# Altium footprint library Tranzistor.PcbLib: 240 footprints (part 2 of 15)
Each footprint in its own frame and in the unit in brackets; x right, y up, seen from the top. Pads: shape width x height; smd on the part's side, far side on the other; paste and mask are expansions set on the pad; w line width, h text height; cw(c..) or ccw(c..) is an arc to the next point about the centre after c.
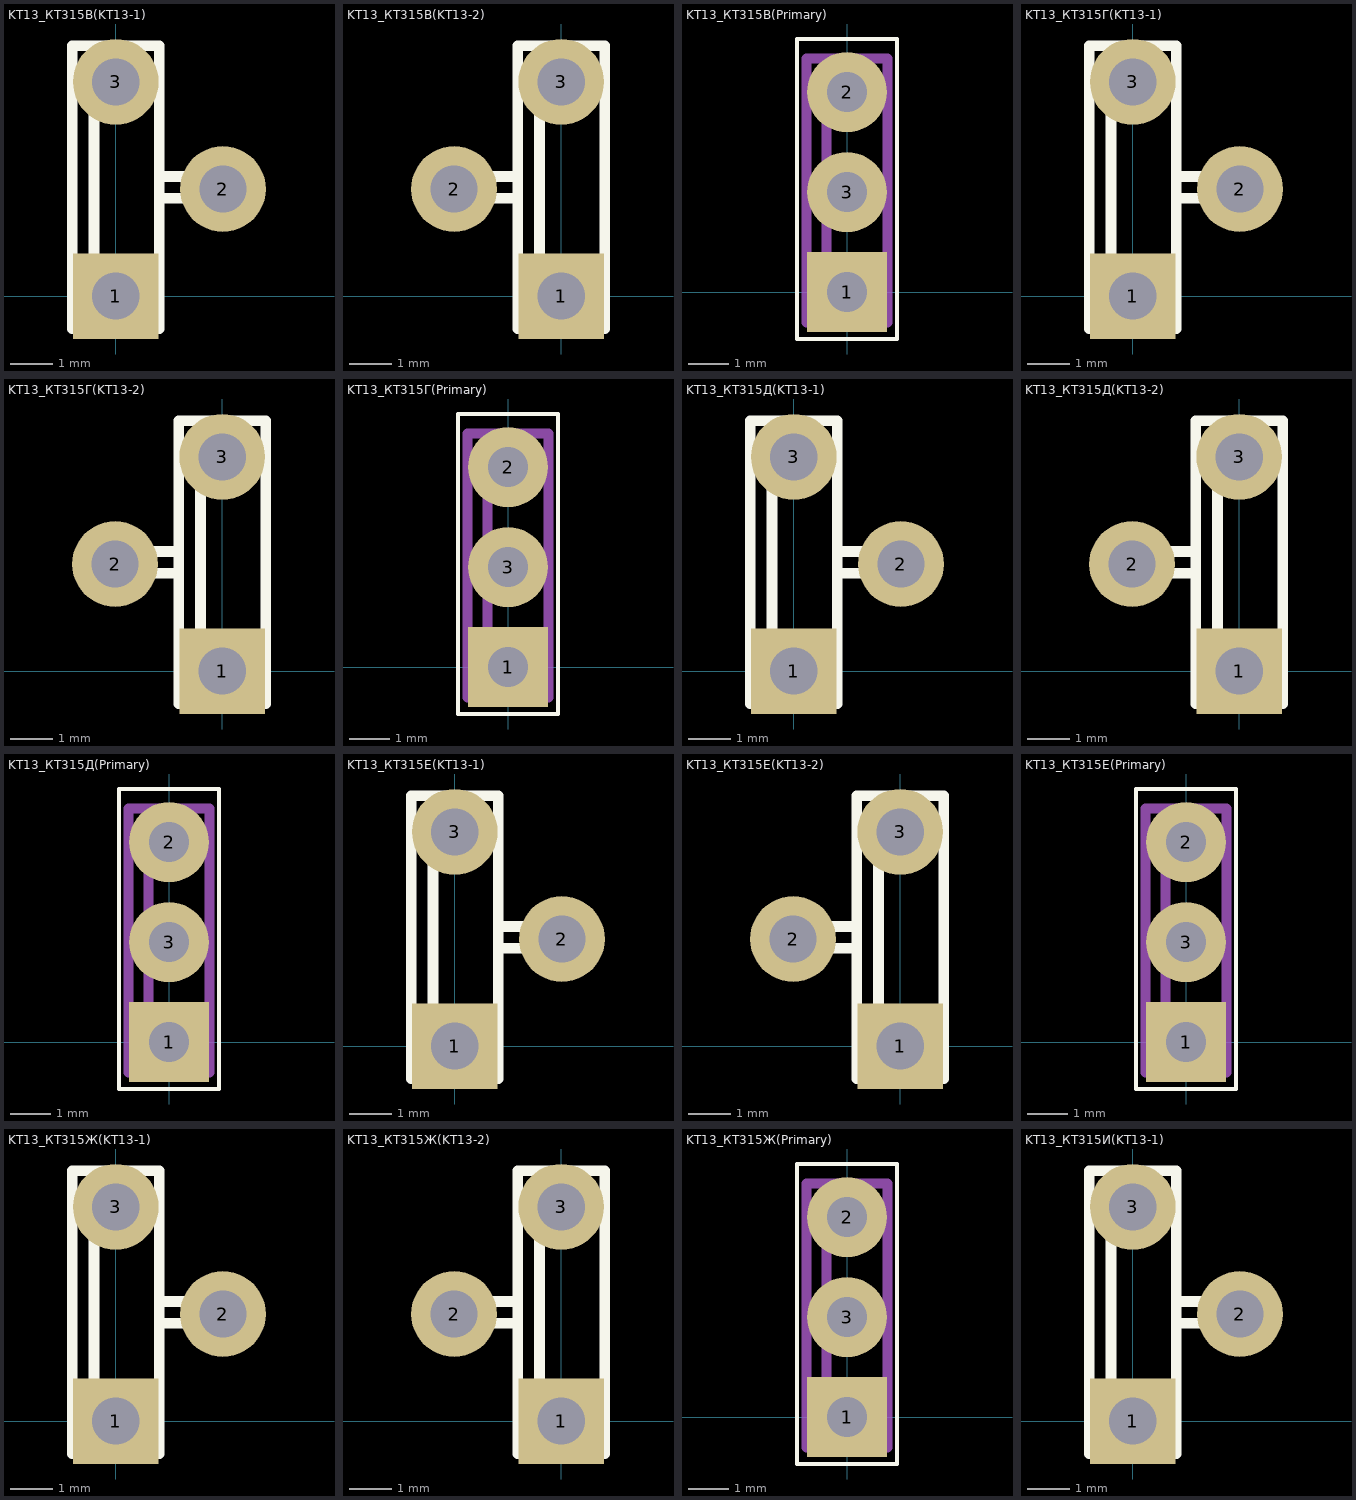
[diagram p1: the footprints below, top view; thin cyan lines are the x and y axes]

## KT13_КТ315В(KT13-1) [mm]
pads (3):
  rect 2x2 hole 1.1: 1(0,0)
  round 2 hole 1.1: 2(2.5,2.5) 3(0,5)
Top Overlay:
  lines w0.25: -0.508,-0.762 -0.508,5.842 ; 1.016,2.286 2.667,2.286 2.667,2.794 1.016,2.794 ; -1.016,-0.762 1.016,-0.762 1.016,5.842 -1.016,5.842 -1.016,-0.762

## KT13_КТ315В(KT13-2) [mm]
pads (3):
  rect 2x2 hole 1.1: 1(0,0)
  round 2 hole 1.1: 2(-2.5,2.5) 3(0,5)
Top Overlay:
  lines w0.25: -1.016,2.286 -2.667,2.286 -2.667,2.794 -1.016,2.794 ; -0.508,-0.762 -0.508,5.842 ; -1.016,-0.762 1.016,-0.762 1.016,5.842 -1.016,5.842 -1.016,-0.762

## KT13_КТ315В(Primary) [mm]
pads (3):
  rect 2x2 hole 1: 1(0,0)
  round 2 hole 1: 2(0,5) 3(0,2.5)
Top Overlay:
  lines w0.1: -1.25,-1.17 1.25,-1.17 1.25,6.33 -1.25,6.33 -1.25,-1.17
Mechanical 1:
  lines w0.25: -0.508,-0.762 -0.508,5.842 ; -1.016,-0.762 1.016,-0.762 1.016,5.842 -1.016,5.842 -1.016,-0.762
  text "Б" at -2.25,4.58 h1
  text "К" at -2.25,2.08 h1
  text "Э" at -2.25,-0.67 h1

## KT13_КТ315Г(KT13-1) [mm]
pads (3):
  rect 2x2 hole 1.1: 1(0,0)
  round 2 hole 1.1: 2(2.5,2.5) 3(0,5)
Top Overlay:
  lines w0.25: -0.508,-0.762 -0.508,5.842 ; 1.016,2.286 2.667,2.286 2.667,2.794 1.016,2.794 ; -1.016,-0.762 1.016,-0.762 1.016,5.842 -1.016,5.842 -1.016,-0.762

## KT13_КТ315Г(KT13-2) [mm]
pads (3):
  rect 2x2 hole 1.1: 1(0,0)
  round 2 hole 1.1: 2(-2.5,2.5) 3(0,5)
Top Overlay:
  lines w0.25: -1.016,2.286 -2.667,2.286 -2.667,2.794 -1.016,2.794 ; -0.508,-0.762 -0.508,5.842 ; -1.016,-0.762 1.016,-0.762 1.016,5.842 -1.016,5.842 -1.016,-0.762

## KT13_КТ315Г(Primary) [mm]
pads (3):
  rect 2x2 hole 1: 1(0,0)
  round 2 hole 1: 2(0,5) 3(0,2.5)
Top Overlay:
  lines w0.1: -1.25,-1.17 1.25,-1.17 1.25,6.33 -1.25,6.33 -1.25,-1.17
Mechanical 1:
  lines w0.25: -0.508,-0.762 -0.508,5.842 ; -1.016,-0.762 1.016,-0.762 1.016,5.842 -1.016,5.842 -1.016,-0.762
  text "Б" at -2.25,4.58 h1
  text "К" at -2.25,2.08 h1
  text "Э" at -2.25,-0.67 h1

## KT13_КТ315Д(KT13-1) [mm]
pads (3):
  rect 2x2 hole 1.1: 1(0,0)
  round 2 hole 1.1: 2(2.5,2.5) 3(0,5)
Top Overlay:
  lines w0.25: -0.508,-0.762 -0.508,5.842 ; 1.016,2.286 2.667,2.286 2.667,2.794 1.016,2.794 ; -1.016,-0.762 1.016,-0.762 1.016,5.842 -1.016,5.842 -1.016,-0.762

## KT13_КТ315Д(KT13-2) [mm]
pads (3):
  rect 2x2 hole 1.1: 1(0,0)
  round 2 hole 1.1: 2(-2.5,2.5) 3(0,5)
Top Overlay:
  lines w0.25: -1.016,2.286 -2.667,2.286 -2.667,2.794 -1.016,2.794 ; -0.508,-0.762 -0.508,5.842 ; -1.016,-0.762 1.016,-0.762 1.016,5.842 -1.016,5.842 -1.016,-0.762

## KT13_КТ315Д(Primary) [mm]
pads (3):
  rect 2x2 hole 1: 1(0,0)
  round 2 hole 1: 2(0,5) 3(0,2.5)
Top Overlay:
  lines w0.1: -1.25,-1.17 1.25,-1.17 1.25,6.33 -1.25,6.33 -1.25,-1.17
Mechanical 1:
  lines w0.25: -0.508,-0.762 -0.508,5.842 ; -1.016,-0.762 1.016,-0.762 1.016,5.842 -1.016,5.842 -1.016,-0.762
  text "Б" at -2.25,4.58 h1
  text "К" at -2.25,2.08 h1
  text "Э" at -2.25,-0.67 h1

## KT13_КТ315Е(KT13-1) [mm]
pads (3):
  rect 2x2 hole 1.1: 1(0,0)
  round 2 hole 1.1: 2(2.5,2.5) 3(0,5)
Top Overlay:
  lines w0.25: -0.508,-0.762 -0.508,5.842 ; 1.016,2.286 2.667,2.286 2.667,2.794 1.016,2.794 ; -1.016,-0.762 1.016,-0.762 1.016,5.842 -1.016,5.842 -1.016,-0.762

## KT13_КТ315Е(KT13-2) [mm]
pads (3):
  rect 2x2 hole 1.1: 1(0,0)
  round 2 hole 1.1: 2(-2.5,2.5) 3(0,5)
Top Overlay:
  lines w0.25: -1.016,2.286 -2.667,2.286 -2.667,2.794 -1.016,2.794 ; -0.508,-0.762 -0.508,5.842 ; -1.016,-0.762 1.016,-0.762 1.016,5.842 -1.016,5.842 -1.016,-0.762

## KT13_КТ315Е(Primary) [mm]
pads (3):
  rect 2x2 hole 1: 1(0,0)
  round 2 hole 1: 2(0,5) 3(0,2.5)
Top Overlay:
  lines w0.1: -1.25,-1.17 1.25,-1.17 1.25,6.33 -1.25,6.33 -1.25,-1.17
Mechanical 1:
  lines w0.25: -0.508,-0.762 -0.508,5.842 ; -1.016,-0.762 1.016,-0.762 1.016,5.842 -1.016,5.842 -1.016,-0.762
  text "Б" at -2.25,4.58 h1
  text "К" at -2.25,2.08 h1
  text "Э" at -2.25,-0.67 h1

## KT13_КТ315Ж(KT13-1) [mm]
pads (3):
  rect 2x2 hole 1.1: 1(0,0)
  round 2 hole 1.1: 2(2.5,2.5) 3(0,5)
Top Overlay:
  lines w0.25: -0.508,-0.762 -0.508,5.842 ; 1.016,2.286 2.667,2.286 2.667,2.794 1.016,2.794 ; -1.016,-0.762 1.016,-0.762 1.016,5.842 -1.016,5.842 -1.016,-0.762

## KT13_КТ315Ж(KT13-2) [mm]
pads (3):
  rect 2x2 hole 1.1: 1(0,0)
  round 2 hole 1.1: 2(-2.5,2.5) 3(0,5)
Top Overlay:
  lines w0.25: -1.016,2.286 -2.667,2.286 -2.667,2.794 -1.016,2.794 ; -0.508,-0.762 -0.508,5.842 ; -1.016,-0.762 1.016,-0.762 1.016,5.842 -1.016,5.842 -1.016,-0.762

## KT13_КТ315Ж(Primary) [mm]
pads (3):
  rect 2x2 hole 1: 1(0,0)
  round 2 hole 1: 2(0,5) 3(0,2.5)
Top Overlay:
  lines w0.1: -1.25,-1.17 1.25,-1.17 1.25,6.33 -1.25,6.33 -1.25,-1.17
Mechanical 1:
  lines w0.25: -0.508,-0.762 -0.508,5.842 ; -1.016,-0.762 1.016,-0.762 1.016,5.842 -1.016,5.842 -1.016,-0.762
  text "Б" at -2.25,4.58 h1
  text "К" at -2.25,2.08 h1
  text "Э" at -2.25,-0.67 h1

## KT13_КТ315И(KT13-1) [mm]
pads (3):
  rect 2x2 hole 1.1: 1(0,0)
  round 2 hole 1.1: 2(2.5,2.5) 3(0,5)
Top Overlay:
  lines w0.25: -0.508,-0.762 -0.508,5.842 ; 1.016,2.286 2.667,2.286 2.667,2.794 1.016,2.794 ; -1.016,-0.762 1.016,-0.762 1.016,5.842 -1.016,5.842 -1.016,-0.762